# Altium footprint library PCB - MICROPHONE - Mallory PMOF-9745P-39UQ.PcbLib: 1 footprints
Each footprint in its own frame and in the unit in brackets; x right, y up, seen from the top. Pads: shape width x height; smd on the part's side, far side on the other; paste and mask are expansions set on the pad; w line width, h text height; cw(c..) or ccw(c..) is an arc to the next point about the centre after c.
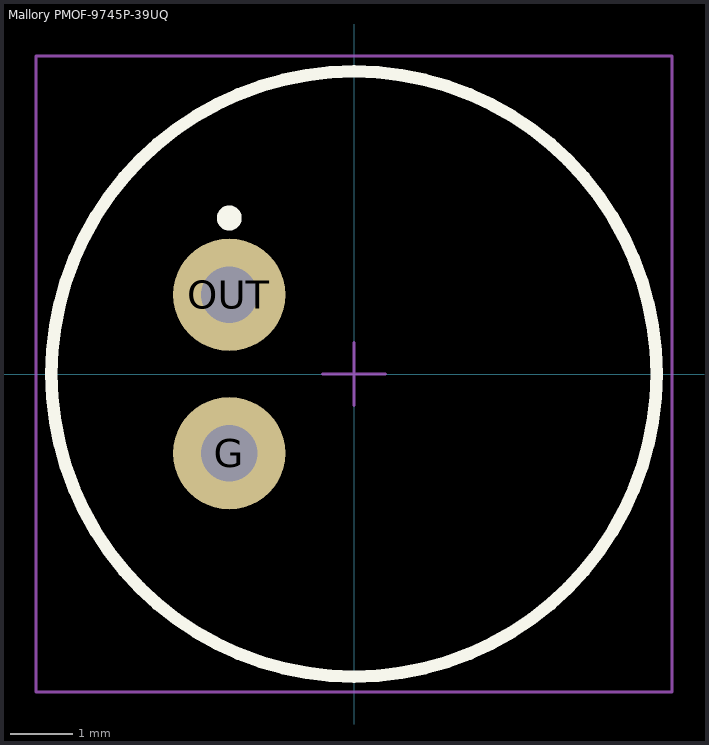
[diagram p0: the footprint, top view; thin cyan lines are the x and y axes]

## Mallory PMOF-9745P-39UQ [mm] "MIC MAG ANLG OMNI -39DB 9.7MM D"
height 5
pads (2):
  round 1.8 hole 0.9 mask+0.102: G(-2,-1.27) OUT(-2,1.27)
Top Overlay:
  circle w0.2: c0,0 r4.85
  circle w0.2: c-2,2.5 r0.1
Mechanical 13:
  circle w0.1: c0,0 r4.85
Mechanical 15:
  lines w0.05: -0.5,0 0.5,0 ; 0,-0.5 0,0.5 ; -5.1,-5.1 -5.1,5.1 5.1,5.1 5.1,-5.1 -5.1,-5.1
3D body "Mallory - PMOF-9745P-39UQ.step": height 4.95, standoff -4.8, extent -4.847,-4.85 4.846,4.85